# Altium footprint library TRA-SMD-SOT23.PcbLib: 5 footprints
Each footprint in its own frame and in the unit in brackets; x right, y up, seen from the top. Pads: shape width x height; smd on the part's side, far side on the other; paste and mask are expansions set on the pad; w line width, h text height; cw(c..) or ccw(c..) is an arc to the next point about the centre after c.
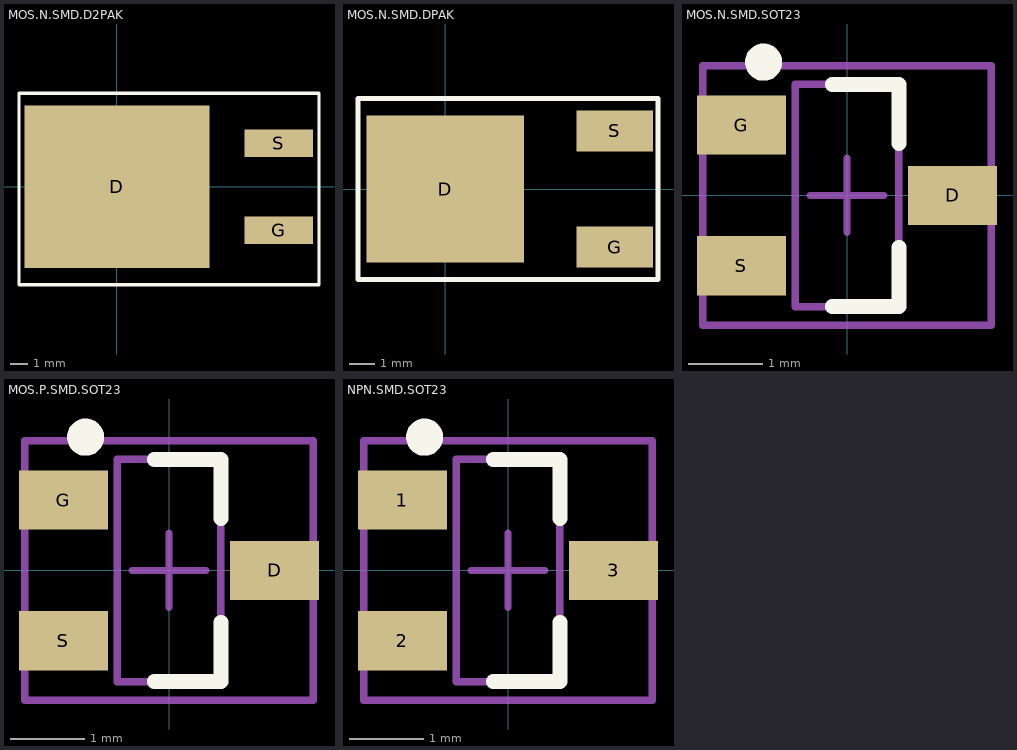
[diagram p0: the footprints below, top view; thin cyan lines are the x and y axes]

## MOS.N.SMD.D2PAK [mm] "MOSFET CANAL N D2PAK"
pads (3):
  rect 10.8x9.5 smd: D(0,0)
  rect 4x1.6 smd: G(9.45,-2.54) S(9.45,2.54)
Top Overlay:
  lines w0.2: -5.715,-5.715 11.811,-5.715 11.811,5.461 -5.715,5.461 -5.715,-5.715
Mechanical 15:
  lines w0.1: 0.897,0 1.897,0 ; 1.397,-0.5 1.397,0.5
3D body "TO-263AB.stp": height 4.8, standoff 0, extent -4.877,-5.436 10.973,5.207

## MOS.N.SMD.DPAK [mm] "MOSFET CANAL N DPAK"
pads (3):
  rect 6.2x5.8 smd: D(0,0)
  rect 3x1.6 smd: G(6.68,-2.285) S(6.68,2.285)
Top Overlay:
  lines w0.2: -3.429,-3.556 8.382,-3.556 8.382,3.556 -3.429,3.556 -3.429,-3.556
Mechanical 15:
  lines w0.1: 0.897,0 1.897,0 ; 1.397,-0.5 1.397,0.5
3D body "TO-252AA-Vishay.stp": height 2.39, standoff 0, extent -3.048,-3.356 7.366,3.356

## MOS.N.SMD.SOT23 [mm] "MOSFET CANAL N SOT23"
pads (3):
  rect 1.2x0.8 smd: D(1.425,0) G(-1.425,0.95) S(-1.425,-0.95)
Top Overlay:
  circle w0.25: c-1.125,1.8 r0.125
  lines w0.2: -0.2,-1.5 0.7,-1.5 0.7,-0.7 ; -0.2,1.5 0.7,1.5 0.7,0.7
Mechanical 13:
  lines w0.1: -0.7,-1.5 0.7,-1.5 0.7,1.5 -0.7,1.5 -0.7,-1.5
Mechanical 15:
  lines w0.1: -0.5,0 0.5,0 ; 0,-0.5 0,0.5 ; -1.95,-1.75 1.95,-1.75 1.95,1.75 -1.95,1.75 -1.95,-1.75
3D body "TRA-SMD-SOT23.stp": height 0.94, standoff -0.1, extent -1.37,-1.52 1.27,1.52

## MOS.P.SMD.SOT23 [mm] "MOSFET CANAL P SOT23"
pads (3):
  rect 1.2x0.8 smd: D(1.425,0) G(-1.425,0.95) S(-1.425,-0.95)
Top Overlay:
  circle w0.25: c-1.125,1.8 r0.125
  lines w0.2: -0.2,-1.5 0.7,-1.5 0.7,-0.7 ; -0.2,1.5 0.7,1.5 0.7,0.7
Mechanical 13:
  lines w0.1: -0.7,-1.5 -0.7,1.5 0.7,1.5 0.7,-1.5 -0.7,-1.5
Mechanical 15:
  lines w0.1: -0.5,0 0.5,0 ; 0,-0.5 0,0.5 ; -1.95,-1.75 -1.95,1.75 1.95,1.75 1.95,-1.75 -1.95,-1.75
3D body "TRA-SMD-SOT23.stp": height 0.94, standoff -0.1, extent -1.37,-1.52 1.27,1.52

## NPN.SMD.SOT23 [mm] "Transistor NPN 0.25W SOT23"
pads (3):
  rect 1.2x0.8 smd: 1(-1.425,0.95) 2(-1.425,-0.95) 3(1.425,0)
Top Overlay:
  circle w0.25: c-1.125,1.8 r0.125
  lines w0.2: -0.2,-1.5 0.7,-1.5 0.7,-0.7 ; -0.2,1.5 0.7,1.5 0.7,0.7
Mechanical 13:
  lines w0.1: -0.7,-1.5 -0.7,1.5 0.7,1.5 0.7,-1.5 -0.7,-1.5
Mechanical 15:
  lines w0.1: -0.5,0 0.5,0 ; 0,-0.5 0,0.5 ; -1.95,-1.75 -1.95,1.75 1.95,1.75 1.95,-1.75 -1.95,-1.75
3D body "TRA-SMD-SOT23.stp": height 0.94, standoff -0.1, extent -1.37,-1.52 1.27,1.52